# Altium schematic symbol library wearable.SchLib: 5 symbols
Pins are listed as number, name and electrical type; pins without a type are passive.

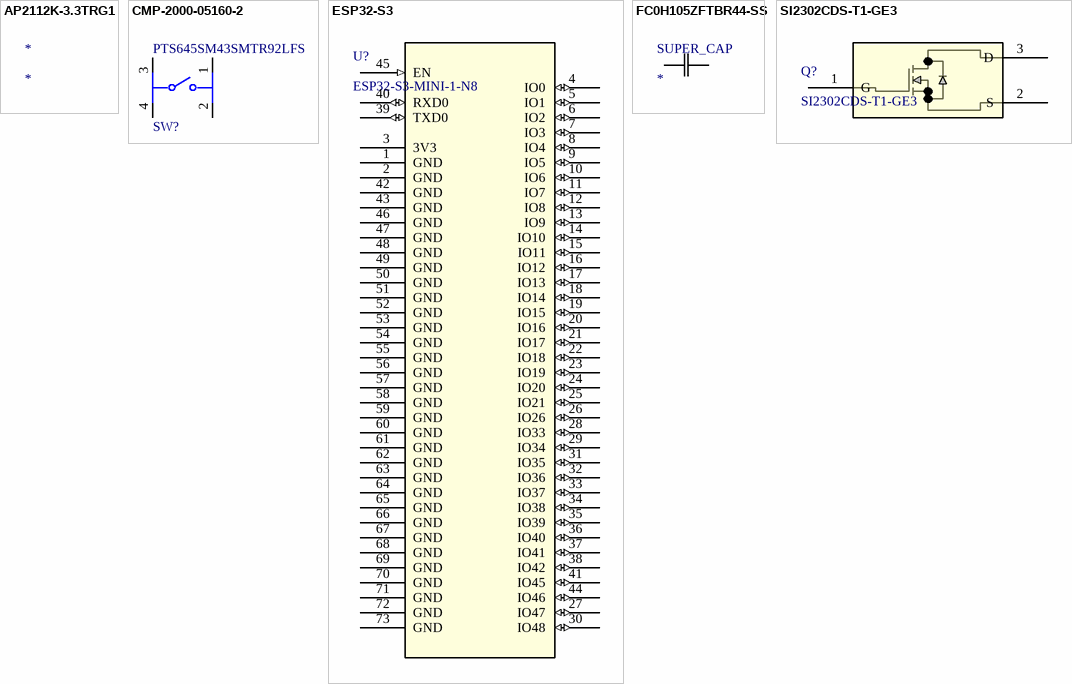
[diagram p0: symbols AP2112K-3.3TRG1 to SI2302CDS-T1-GE3]

## AP2112K-3.3TRG1
designator *
AP2112 Series 0.6 A 3.3 V Fixed Output SMT LDO Linear Regulator - SOT23-5; Manufacturer: Diodes Inc.; Manufacturer Part Number: AP2112K-3.3TRG1; Accuracy: 1.5%; Dropout Voltage: 250mV; Max Supply Voltage: 6V; Max Junction Temperature (Tj): 85°C; Max Output current: 600mA; Min Input Voltage: 2.5V; Nominal Supply Current: 55µA; Number of Channels: 1; Output Voltage: 3.3V; Polarity: Positive; Supplier: Avnet; Supplier Part Number: AP2112K-3.3TRG1; RoHS: Compliant; Category: LDO Voltage Regulators; Stock: 3000; Pricing: 3000=0.06929, 6000=0.06893, 12000=0.06858, 24000=0.06823, 48000=0.06787 (USD); Ambient Temperature Range High: 85°C; Case/Package: LSSOP; China RoHS: Compliant; Country of Origin: Mainland China; Export Control Classification Number (ECCN) Code: EAR99; Height: 1.4mm; Height - Seated (Max): 1.45mm; Harmonized Tariff Schedule (HTS) Code: 8542.39.00.60; Introduction Date: 2010-08-17; Lead Free: Lead Free; Length: 2.92mm; Lifecycle Status: Production; Max Operating Temperature: 85°C; Min Operating Temperature: -40°C; Min Supply Voltage: 2.5V; Mounting Technology: Surface Mount; Number of Circuits: 1; Number of Outputs: 1; Pins: 5; Number of Regulators: 1; Number of Terminals: 5; Output Current: 600mA; Output Type: Fixed; Packaging: Digi-Reel®; Quiescent Current: 55µA; REACH SVHC: Yes; Schedule B: 8542390000, 8542390000|8542390000|8542390000|8542390000|8542390000; Terminal Pitch: 950µm; Voltage Tolerance: 1.5%; Width: 1.6mm; ComponentLink1URL: https://datasheet.octopart.com:443/AP2112K-3.3TRG1-Diodes-Inc.-datasheet-101745658.pdf?src-supplier=IHS; ComponentLink1Description: https://datasheet.octopart.com:443/AP2112K-3.3TRG1-Diodes-Inc.-datasheet-101745658.pdf?src-supplier=IHS; ComponentLink2URL: https://datasheet.octopart.com:443/AP2112K-3.3TRG1-Diodes-Inc.-datasheet-182385097.pdf?src-supplier=IHS; ComponentLink2Description: https://datasheet.octopart.com:443/AP2112K-3.3TRG1-Diodes-Inc.-datasheet-182385097.pdf?src-supplier=IHS; ComponentLink3URL: https://datasheet.octopart.com:443/AP2112K-3.3TRG1-Diodes-Inc.-datasheet-37177583.pdf?src-supplier=SHENGYU+ELECTRONICS; ComponentLink3Description: https://datasheet.octopart.com:443/AP2112K-3.3TRG1-Diodes-Inc.-datasheet-37177583.pdf?src-supplier=SHENGYU+ELECTRONICS; ComponentLink4URL: https://sigma.octopart.com:443/138895853/technical_drawing/Diodes-Inc.-AP2112K-3.3TRG1.pdf?src-supplier=Upverter; ComponentLink4Description: https://sigma.octopart.com:443/138895853/technical_drawing/Diodes-Inc.-AP2112K-3.3TRG1.pdf?src-supplier=Upverter

## CMP-2000-05160-2
designator SW?, comment PTS645SM43SMTR92LFS
SWITCH TACTILE SPST-NO 0.05A 12V; Contact Resistance: 100mR; Throw Configuration: SPST; Illumination Type: Non-Illuminated; Mechanical Life: 100000Cycles; Current Rating: 50mA; Switch Function: Off-Mom; Actuator Length: 0.85mm; Actuator Material: Nylon; Actuator Type: Standard; Operating Force: 160gf; Min Operating Temperature: -20°C; REACH SVHC: No SVHC; Termination: Gull Wing; Case/Package: SMD/SMT; Packaging: Tape and Reel; Mount: Surface Mount; Voltage Rating (DC): 12V; Orientation: Straight; Lead Free: Lead Free; Contact Material: Silver; Color: Black; Max Current Rating: 50mA; Contact Plating: Silver; Depth: 9mm; Package Quantity: 1; Max Voltage Rating (DC): 12V; Length: 6mm; Max Operating Temperature: 60°C
footprint FP-PTS645SM43SMTR92LFS-MFG
pins: 1, 2, 3, 4

## ESP32-S3
designator U?, comment ESP32-S3-MINI-1-N8
SMD module, ESP32-S3FN8, 8 MB SPI flash, PCB antenna; Manufacturer: Espressif Systems; Supplier: DigiKey; Supplier Part Number: 5407-ESP32-S3-MINI-1-N8CT-ND; Manufacturer Part Number: ESP32-S3-MINI-1-N8; RoHS: Compliant; Category: RF Transceiver Modules and Modems; Stock: 7176; Pricing: 1=5.43, 10=4.703, 25=4.4492, 100=4.0995, 250=3.89008 (USD); ComponentLink1URL: https://datasheet.octopart.com:443/ESP32-S3-MINI-1-N8-Espressif-Systems-datasheet-194171672.pdf?src-supplier=LCSC; ComponentLink1Description: https://datasheet.octopart.com:443/ESP32-S3-MINI-1-N8-Espressif-Systems-datasheet-194171672.pdf?src-supplier=LCSC; ComponentLink2URL: https://datasheet.octopart.com:443/ESP32-S3-MINI-1-N8-Espressif-Systems-datasheet-188867343.pdf?src-supplier=TME; ComponentLink2Description: https://datasheet.octopart.com:443/ESP32-S3-MINI-1-N8-Espressif-Systems-datasheet-188867343.pdf?src-supplier=TME; ComponentLink3URL: https://datasheet.octopart.com:443/ESP32-S3-MINI-1-N8-Espressif-Systems-datasheet-165560562.pdf?src-supplier=TME; ComponentLink3Description: https://datasheet.octopart.com:443/ESP32-S3-MINI-1-N8-Espressif-Systems-datasheet-165560562.pdf?src-supplier=TME; ComponentLink4URL: https://datasheet.octopart.com:443/ESP32-S3-MINI-1-N8-Espressif-Systems-datasheet-165560559.pdf?src-supplier=TME; ComponentLink4Description: https://datasheet.octopart.com:443/ESP32-S3-MINI-1-N8-Espressif-Systems-datasheet-165560559.pdf?src-supplier=TME; ComponentLink5URL: https://datasheet.octopart.com:443/ESP32-S3-MINI-1-N8-Espressif-Systems-datasheet-192318068.pdf?src-supplier=HQonline; ComponentLink5Description: https://datasheet.octopart.com:443/ESP32-S3-MINI-1-N8-Espressif-Systems-datasheet-192318068.pdf?src-supplier=HQonline; LCSC Part No.: C2913206
footprint ESP32-S3-MINI-1_EXP
pins: 1 GND (power), 2 GND (power), 3 3V3 (power), 4 IO0 (io), 5 IO1 (io), 6 IO2 (io), 7 IO3 (io), 8 IO4 (io), 9 IO5 (io), 10 IO6 (io), 11 IO7 (io), 12 IO8 (io), 13 IO9 (io), 14 IO10 (io), 15 IO11 (io), 16 IO12 (io), 17 IO13 (io), 18 IO14 (io), 19 IO15 (io), 20 IO16 (io), 21 IO17 (io), 22 IO18 (io), 23 IO19 (io), 24 IO20 (io), 25 IO21 (io), 26 IO26 (io), 27 IO47 (io), 28 IO33 (io), 29 IO34 (io), 30 IO48 (io), 31 IO35 (io), 32 IO36 (io), 33 IO37 (io), 34 IO38 (io), 35 IO39 (io), 36 IO40 (io), 37 IO41 (io), 38 IO42 (io), 39 TXD0 (io), 40 RXD0 (io), 41 IO45 (io), 42 GND (power), 43 GND (power), 44 IO46 (io), 45 EN (in), 46 GND (power), 47 GND (power), 48 GND (power), 49 GND (power), 50 GND (power), 51 GND (power), 52 GND (power), 53 GND (power), 54 GND (power), 55 GND (power), 56 GND (power), 57 GND (power), 58 GND (power), 59 GND (power), 60 GND (power), 61 GND (power), 62 GND (power), 63 GND (power), 64 GND (power), 65 GND (power), 66 GND (power), 67 GND (power), 68 GND (power), 69 GND (power), 70 GND (power), 71 GND (power), 72 GND (power), 73 GND (power)

## FC0H105ZFTBR44-SS
designator SUPER_CAP
Electric Double Layer Capacitor, 5.5V, 80% +Tol, 20% -Tol, 1000000uF, Surface Mount, 8585; Manufacturer: Yageo Group; Manufacturer Part Number: FC0H105ZFTBR44-SS; Value: 1F; ESR (Equivalent Series Resistance): 7Ω; Supplier: Arrow Electronics; Supplier Part Number: FC0H105ZFTBR44-SS; RoHS: Compliant; Category: Electric Double Layer Capacitors; Stock: 7; Diameter: 21mm; Height: 10.5mm; Length: 21.6mm; Lifecycle Status: Production; Max Operating Temperature: 70°C; Min Operating Temperature: -25°C; Mounting Technology: Surface Mount; REACH SVHC: Yes; Schedule B: 8532290040, 8532290040|8532290040|8532290040|8532290040|8532290040; Voltage Rating (DC): 5.5V; Width: 21.6mm; ComponentLink1URL: https://datasheet.octopart.com:443/FC0H105ZFTBR44-SS-KEMET-datasheet-182056571.pdf?src-supplier=IHS; ComponentLink1Description: https://datasheet.octopart.com:443/FC0H105ZFTBR44-SS-KEMET-datasheet-182056571.pdf?src-supplier=IHS; ComponentLink2URL: https://datasheet.octopart.com:443/FC0H105ZFTBR44-SS-KEMET-datasheet-140123096.pdf?src-supplier=Farnell; ComponentLink2Description: https://datasheet.octopart.com:443/FC0H105ZFTBR44-SS-KEMET-datasheet-140123096.pdf?src-supplier=Farnell; ComponentLink3URL: https://datasheet.octopart.com:443/FC0H105ZFTBR44-SS-KEMET-datasheet-86449767.pdf?src-supplier=Farnell; ComponentLink3Description: https://datasheet.octopart.com:443/FC0H105ZFTBR44-SS-KEMET-datasheet-86449767.pdf?src-supplier=Farnell; ComponentLink4URL: https://datasheet.octopart.com:443/FC0H105ZFTBR44-SS-KEMET-datasheet-181965048.pdf?src-supplier=Farnell; ComponentLink4Description: https://datasheet.octopart.com:443/FC0H105ZFTBR44-SS-KEMET-datasheet-181965048.pdf?src-supplier=Farnell; ComponentLink5URL: https://datasheet.octopart.com:443/FC0H105ZFTBR44-SS-KEMET-datasheet-76759449.pdf?src-supplier=Farnell; ComponentLink5Description: https://datasheet.octopart.com:443/FC0H105ZFTBR44-SS-KEMET-datasheet-76759449.pdf?src-supplier=Farnell; ComponentLink6URL: https://datasheet.octopart.com:443/FC0H105ZFTBR44-SS-KEMET-datasheet-176335232.pdf?src-supplier=Newark; ComponentLink6Description: https://datasheet.octopart.com:443/FC0H105ZFTBR44-SS-KEMET-datasheet-176335232.pdf?src-supplier=Newark
footprint CAP_FC-105_KEM-L
pins: 1, 2

## SI2302CDS-T1-GE3
designator Q?
N-CHANNEL 20-V (D-S) MOSFET; Manufacturer_Name: Vishay; Copyright: Copyright (C) 2026 Ultra Librarian. All rights reserved.; Manufacturer_Part_Number: SI2302CDS-T1-GE3; RefDes: RefDes; Type: Type
footprint TO-236_VIS-L
pins: 1 G, 2 S, 3 D